# Altium footprint library SamacSys.PcbLib: 1 footprints
Each footprint in its own frame and in the unit in brackets; x right, y up, seen from the top. Pads: shape width x height; smd on the part's side, far side on the other; paste and mask are expansions set on the pad; w line width, h text height; cw(c..) or ccw(c..) is an arc to the next point about the centre after c.
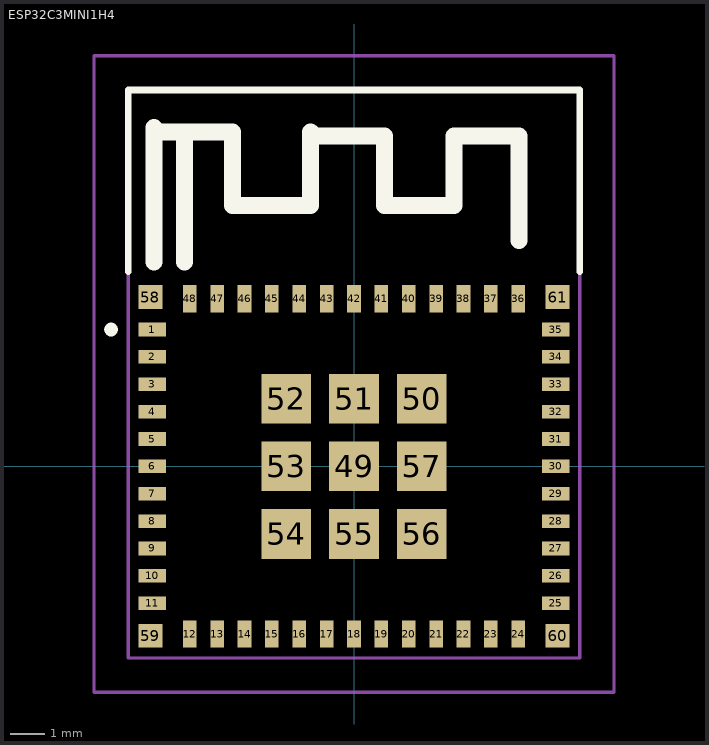
[diagram p0: the footprint, top view; thin cyan lines are the x and y axes]

## ESP32C3MINI1H4 [mm]
pads (61):
  rect 0.8x0.4 smd: 1(-5.9,4) 2(-5.9,3.2) 3(-5.9,2.4) 4(-5.9,1.6) 5(-5.9,0.8) 6(-5.9,0) 7(-5.9,-0.8) 8(-5.9,-1.6) 9(-5.9,-2.4) 10(-5.9,-3.2) 11(-5.9,-4) 25(5.9,-4) 26(5.9,-3.2) 27(5.9,-2.4) 28(5.9,-1.6) 29(5.9,-0.8) 30(5.9,0) 31(5.9,0.8) 32(5.9,1.6) 33(5.9,2.4) 34(5.9,3.2) 35(5.9,4)
  rect 0.4x0.8 smd: 12(-4.8,-4.9) 13(-4,-4.9) 14(-3.2,-4.9) 15(-2.4,-4.9) 16(-1.6,-4.9) 17(-0.8,-4.9) 18(0,-4.9) 19(0.8,-4.9) 20(1.6,-4.9) 21(2.4,-4.9) 22(3.2,-4.9) 23(4,-4.9) 24(4.8,-4.9) 36(4.8,4.9) 37(4,4.9) 38(3.2,4.9) 39(2.4,4.9) 40(1.6,4.9) 41(0.8,4.9) 42(0,4.9) 43(-0.8,4.9) 44(-1.6,4.9) 45(-2.4,4.9) 46(-3.2,4.9) 47(-4,4.9) 48(-4.8,4.9)
  rect 1.45x1.45 smd: 49(0,0) 50(1.975,1.975) 51(0,1.975) 52(-1.975,1.975) 53(-1.975,0) 54(-1.975,-1.975) 55(0,-1.975) 56(1.975,-1.975) 57(1.975,0)
  rect 0.7x0.7 smd: 58(-5.95,4.95) 59(-5.95,-4.95) 60(5.95,-4.95) 61(5.95,4.95)
Top Overlay:
  lines w0.2: -6.6,5.7 -6.6,11 6.6,11 6.6,5.7 ; -7.2,4 cw(c-7.1,4) -7,4 cw(c-7.1,4) -7.2,4
  lines w0.5: -5.842,5.969 -5.842,9.906 -5.715,9.779 -3.556,9.779 -3.556,7.62 -1.27,7.62 -1.27,9.779 -1.143,9.652 0.889,9.652 0.889,7.62 2.921,7.62 2.921,9.652 4.826,9.652 4.826,6.604 ; -4.953,5.969 -4.953,9.652
Mechanical 13:
  lines w0.1: -6.6,-5.6 6.6,-5.6 6.6,11 -6.6,11 -6.6,-5.6
Mechanical 15:
  lines w0.1: -7.6,-6.6 7.6,-6.6 7.6,12 -7.6,12 -7.6,-6.6
3D body: height 2.4, standoff 0, extent -6.402,-5.402 6.402,5.402